# Altium schematic symbol library D_TVS_Clamp_Quad_6p.SchLib: 1 symbol
Pins are listed as number, name and electrical type; pins without a type are passive.

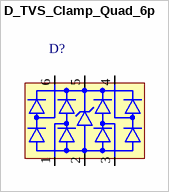
[diagram p0: symbol D_TVS_Clamp_Quad_6p]

## D_TVS_Clamp_Quad_6p
designator D?
pins: 1, 2 G, 3, 4, 5, 6